# Altium integrated library connector.IntLib: 30 symbols
Pins are listed as number, name and electrical type; pins without a type are passive.

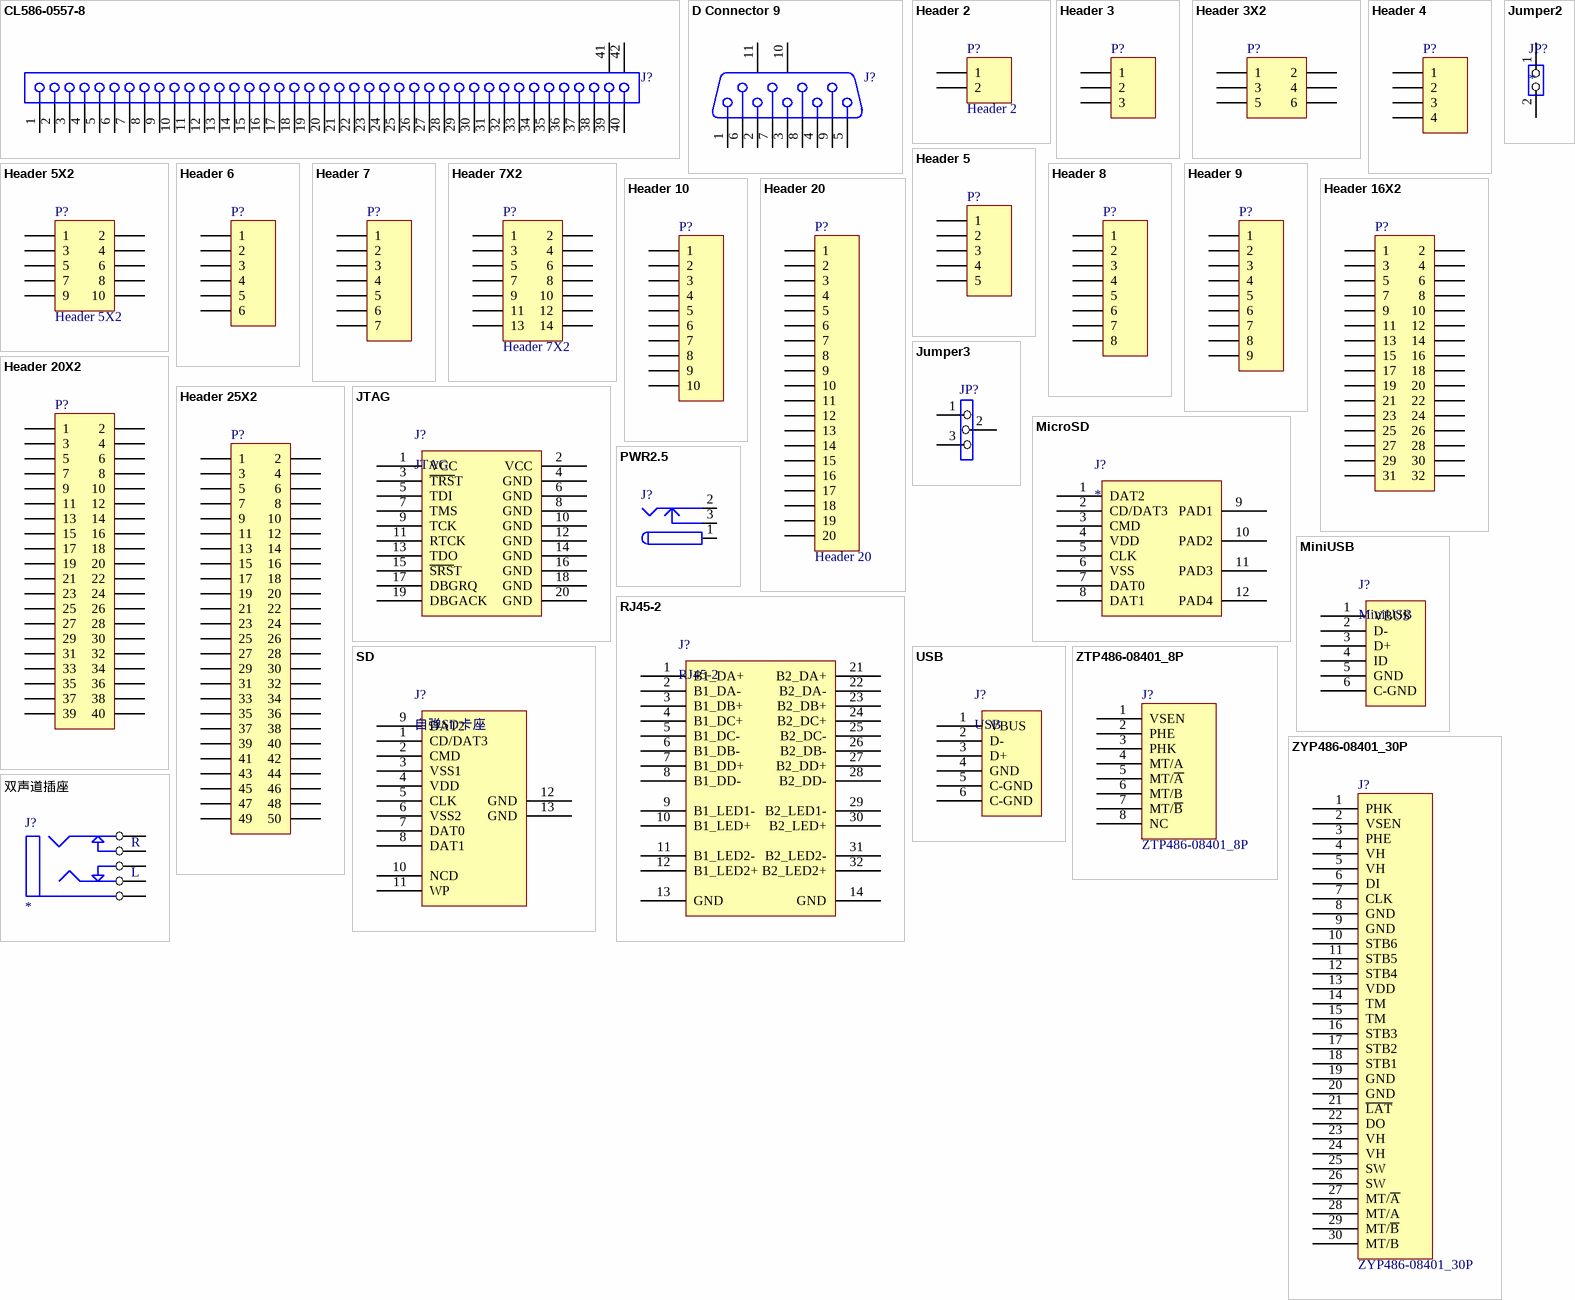
[diagram p0: symbols CL586-0557-8 to 双声道插座]

## CL586-0557-8
designator J?
FH12 Series, "Flip-Lock" SMT/ZIF FFC/FPC Connector - 0.5mm Spaced Top Contact; Positions: 40; ContactMaterial: Phosphor Bronze; Current: 0.4A; PCB_Layout: Complies with manufacturer's recommendation.; Note: Pad dimensions follow nominal values, Suitable for Wave Soldering, Adjust for Re-flow.; Published: 17-Jul-2002; DatasheetVersion: 13-Nov-2000; PackageVersion: 13-Nov-2000; PackageReference: FH12A-40S-0.5SH; Publisher: Altium Limited; ComponentLink1Description: Manufacturer Link; ComponentLink1URL: http://www.hiroseusa.com/; ComponentLink2Description: Datasheet; ComponentLink2URL: http://www.hirose.co.jp/cataloge_hp/e58605370.pdf
footprint FH12-40S-0.5SH (Connector; FH12 Series; 40 Position; 0.5mm Spaced Bottom Contact)
signal-integrity model FH12
pins: 1, 2, 3, 4, 5, 6, 7, 8, 9, 10, 11, 12, 13, 14, 15, 16, 17, 18, 19, 20, 21, 22, 23, 24, 25, 26, 27, 28, 29, 30, 31, 32, 33, 34, 35, 36, 37, 38, 39, 40, 41 MH1, 42 MH2

## D Connector 9
designator J?
Receptacle Assembly, 9 Position, Right Angle; PackageDocument: O; Positions: 9; Published: 15-Jun-2001; LatestRevisionDate: 17-Jul-2002; LatestRevisionNote: Re-released for DXP Platform.; DatasheetDocument: 1-Sep-1999; PackageReference: 788750; Publisher: Altium Limited; Orientation: Right Angle; Gender: Receptacle
footprint DSUB1.385-2H9 (Connector; D Subminiature; 9 Position; Right Angle; Pitch 1.385 mm)
pins: 1, 2, 3, 4, 5, 6, 7, 8, 9, 10 MH1, 11 MH2

## Header 2
designator P?
Header, 2-Pin; LatestRevisionDate: 17-Jul-2002; LatestRevisionNote: Re-released for DXP Platform.; Publisher: Altium Limited
footprint XH254-2
footprint HDR1X2 (Connector; Header; 2 Position)
footprint KF301-2
footprint VH396-2
footprint XH254-2H (Connector; Header; 2 Position)
pins: 1, 2

## Header 3
designator P?
Header, 3-Pin; LatestRevisionDate: 17-Jul-2002; LatestRevisionNote: Re-released for DXP Platform.; Publisher: Altium Limited
footprint XH254-3
footprint HDR1X3 (Connector; Header; 3 Position)
footprint XH254-3H (Connector; Header; 3 Position)
pins: 1, 2, 3

## Header 3X2
designator P?
Header, 3-Pin, Dual row; LatestRevisionDate: 17-Jul-2002; LatestRevisionNote: Re-released for DXP Platform.; Publisher: Altium Limited
footprint HDR2X3 (Connector; Header; 3x2 Position)
signal-integrity model Connector
pins: 1, 2, 3, 4, 5, 6

## Header 4
designator P?
Header, 4-Pin; LatestRevisionDate: 17-Jul-2002; LatestRevisionNote: Re-released for DXP Platform.; Publisher: Altium Limited
footprint XH254-4
footprint HDR1X4 (Connector; Header; 4 Position)
footprint VH396-4
footprint PH-A4 2.0
pins: 1, 2, 3, 4

## Header 5
designator P?
Header, 5-Pin; LatestRevisionDate: 17-Jul-2002; LatestRevisionNote: Re-released for DXP Platform.; Publisher: Altium Limited
footprint XH254-5
footprint HDR1X5 (Connector; Header; 5 Position)
footprint KF301-5
pins: 1, 2, 3, 4, 5

## Header 5X2
designator P?
Header, 5-Pin, Dual row; LatestRevisionDate: 17-Jul-2002; LatestRevisionNote: Re-released for DXP Platform.; Publisher: Altium Limited
footprint DC2X5
pins: 1, 2, 3, 4, 5, 6, 7, 8, 9, 10

## Header 6
designator P?
Header, 6-Pin; LatestRevisionDate: 17-Jul-2002; LatestRevisionNote: Re-released for DXP Platform.; Publisher: Altium Limited
footprint XH254-6
footprint HDR1X6 (Connector; Header; 6 Position)
pins: 1, 2, 3, 4, 5, 6

## Header 7
designator P?
Header, 7-Pin; LatestRevisionDate: 17-Jul-2002; LatestRevisionNote: Re-released for DXP Platform.; Publisher: Altium Limited
footprint XH254-7
footprint HDR1X7 (Connector; Header; 7 Position)
pins: 1, 2, 3, 4, 5, 6, 7

## Header 7X2
designator P?
Header, 7-Pin, Dual row; LatestRevisionDate: 17-Jul-2002; LatestRevisionNote: Re-released for DXP Platform.; Publisher: Altium Limited
footprint DC2X7
pins: 1, 2, 3, 4, 5, 6, 7, 8, 9, 10, 11, 12, 13, 14

## Header 8
designator P?
Header, 8-Pin; LatestRevisionDate: 17-Jul-2002; LatestRevisionNote: Re-released for DXP Platform.; Publisher: Altium Limited
footprint XH254-8
footprint HDR1X8 (Connector; Header; 8 Position)
pins: 1, 2, 3, 4, 5, 6, 7, 8

## Header 9
designator P?
Header, 9-Pin; LatestRevisionDate: 17-Jul-2002; LatestRevisionNote: Re-released for DXP Platform.; Publisher: Altium Limited
footprint HDR1X9 (Connector; Header; 9 Position)
pins: 1, 2, 3, 4, 5, 6, 7, 8, 9

## Header 10
designator P?
Header, 10-Pin; LatestRevisionDate: 17-Jul-2002; LatestRevisionNote: Re-released for DXP Platform.; Publisher: Altium Limited
footprint HDR1X10 (Connector; Header; 10 Position)
pins: 1, 2, 3, 4, 5, 6, 7, 8, 9, 10

## Header 16X2
designator P?
Header, 16-Pin, Dual row; LatestRevisionDate: 17-Jul-2002; LatestRevisionNote: Re-released for DXP Platform.; Publisher: Altium Limited
footprint HDR2X16 (Connector; Header; 16x2 Position)
signal-integrity model Connector
pins: 1, 2, 3, 4, 5, 6, 7, 8, 9, 10, 11, 12, 13, 14, 15, 16, 17, 18, 19, 20, 21, 22, 23, 24, 25, 26, 27, 28, 29, 30, 31, 32

## Header 20
designator P?
Header, 20-Pin; LatestRevisionDate: 17-Jul-2002; LatestRevisionNote: Re-released for DXP Platform.; Publisher: Altium Limited
footprint XH254-20
footprint HDR1X20 (Connector; Header; 20 Position)
footprint LCD12864
pins: 1, 2, 3, 4, 5, 6, 7, 8, 9, 10, 11, 12, 13, 14, 15, 16, 17, 18, 19, 20

## Header 20X2
designator P?
Header, 20-Pin, Dual row; LatestRevisionDate: 17-Jul-2002; LatestRevisionNote: Re-released for DXP Platform.; Publisher: Altium Limited
footprint HDR2X20 (Connector; Header; 20x2 Position)
signal-integrity model Connector
pins: 1, 2, 3, 4, 5, 6, 7, 8, 9, 10, 11, 12, 13, 14, 15, 16, 17, 18, 19, 20, 21, 22, 23, 24, 25, 26, 27, 28, 29, 30, 31, 32, 33, 34, 35, 36, 37, 38, 39, 40

## Header 25X2
designator P?
Header, 25-Pin, Dual row; LatestRevisionDate: 17-Jul-2002; LatestRevisionNote: Re-released for DXP Platform.; Publisher: Altium Limited
footprint HDR2X25 (Connector; Header; 25x2 Position)
signal-integrity model Connector
pins: 1, 2, 3, 4, 5, 6, 7, 8, 9, 10, 11, 12, 13, 14, 15, 16, 17, 18, 19, 20, 21, 22, 23, 24, 25, 26, 27, 28, 29, 30, 31, 32, 33, 34, 35, 36, 37, 38, 39, 40, 41, 42, 43, 44, 45, 46, 47, 48, 49, 50

## JTAG
designator J?
footprint HDR2X10 (Connector; Header; 10x2 Position)
pins: 1 VCC, 2 VCC, 3 ~{TRS}T, 4 GND, 5 TDI, 6 GND, 7 TMS, 8 GND, 9 TCK, 10 GND, 11 RTCK, 12 GND, 13 TDO, 14 GND, 15 ~{SRS}T, 16 GND, 17 DBGRQ, 18 GND, 19 DBGACK, 20 GND

## Jumper2
designator JP?
footprint JP2
pins: 1, 2

## Jumper3
designator JP?  (value not drawn)
footprint JP3
pins: 1, 2, 3

## MicroSD
designator J?
pins: 1 DAT2, 2 CD/DAT3, 3 CMD, 4 VDD, 5 CLK, 6 VSS, 7 DAT0, 8 DAT1, 9 PAD1, 10 PAD2, 11 PAD3, 12 PAD4

## MiniUSB
designator J?
footprint MiniUSB (MiniUSB TypeB)
pins: 1 VBUS, 2 D-, 3 D+, 4 ID, 5 GND, 6 C-GND

## PWR2.5
designator J?
Low Voltage Power Supply Connector; Published: 17-Dec-2003; DatasheetDocument: 09-May-2002; Publisher: Altium Limited; ComponentLink1Description: Manufacturer Link; ComponentLink1URL: http://domino.kycon.com/internet/Products.html
footprint DC005
pins: 1 (power), 2 (power), 3 (power)

## RJ45-2
designator J?
footprint RJ45-2 (双RJ45插座)
pins: 1 B1_DA+, 2 B1_DA-, 3 B1_DB+, 4 B1_DC+, 5 B1_DC-, 6 B1_DB-, 7 B1_DD+, 8 B1_DD-, 9 B1_LED1-, 10 B1_LED+, 11 B1_LED2-, 12 B1_LED2+, 13 GND, 14 GND, 21 B2_DA+, 22 B2_DA-, 23 B2_DB+, 24 B2_DC+, 25 B2_DC-, 26 B2_DB-, 27 B2_DD+, 28 B2_DD-, 29 B2_LED1-, 30 B2_LED+, 31 B2_LED2-, 32 B2_LED2+

## SD
designator J?, comment 自弹SD卡座
footprint SD_PUSH
pins: 1 CD/DAT3, 2 CMD, 3 VSS1, 4 VDD, 5 CLK, 6 VSS2, 7 DAT0, 8 DAT1, 9 DAT2, 10 NCD, 11 WP, 12 GND, 13 GND

## USB
designator J?
USB接口
footprint USB2.5-2H4B (Connector; USB1.1, Type A, Thru-Hole; 4 Position; Right Angle)
footprint USB2.5-2H4D (Connector; USB1.1, Type B, Thru-Hole; 4 Position; Right Angle)
pins: 1 VBUS, 2 D-, 3 D+, 4 GND, 5 C-GND, 6 C-GND

## ZTP486-08401_8P
designator J?
connector
footprint ZTP486F-08401_8P
pins: 1 VSEN, 2 PHE, 3 PHK, 4 MT/A, 5 MT/~{A}, 6 MT/B, 7 MT/~{B}, 8 NC

## ZYP486-08401_30P
designator J?
connector
footprint ZTP486F-08401_30P
pins: 1 PHK, 2 VSEN, 3 PHE, 4 VH, 5 VH, 6 DI, 7 CLK, 8 GND, 9 GND, 10 STB6, 11 STB5, 12 STB4, 13 VDD, 14 TM, 15 TM, 16 STB3, 17 STB2, 18 STB1, 19 GND, 20 GND, 21 ~{LAT}, 22 DO, 23 VH, 24 VH, 25 SW, 26 SW, 27 MT/~{A}, 28 MT/A, 29 MT/~{B}, 30 MT/B

## 双声道插座
designator J?
footprint PJ307
pins: 1 E, 2 D, 3 C, 4 B, 5 A
text: R; L